# EAGLE library part IV-11 (library Passives)
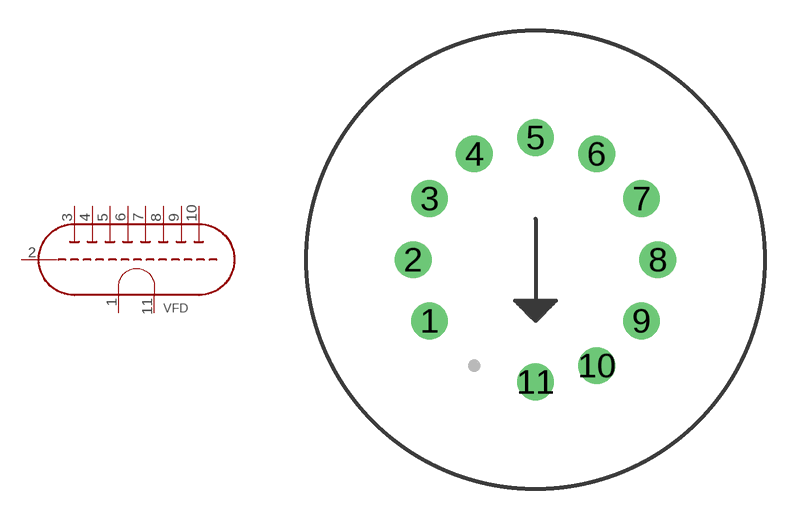
[diagram p7: symbol with the pads of IV-11; footprint IV-11]

Designator prefix VFD

## IV-11  [IV-11]
1  1
2  2
3  3
4  4
5  5
6  6
7  7
8  8
9  9
10  10
11  11

## Footprint IV-11 (pad centres in mm)
drill 1 pad 1.8: 1 -5.196,-3; 2 -6,0; 3 -5.196,3; 4 -3,5.196; 5 0,6; 6 3,5.196; 7 5.196,3; 8 6,0; 9 5.196,-3; 10 3,-5.196; 11 0,-6